# Altium footprint library 5810140011.PcbLib: 1 footprints
Each footprint in its own frame and in the unit in brackets; x right, y up, seen from the top. Pads: shape width x height; smd on the part's side, far side on the other; paste and mask are expansions set on the pad; w line width, h text height; cw(c..) or ccw(c..) is an arc to the next point about the centre after c.
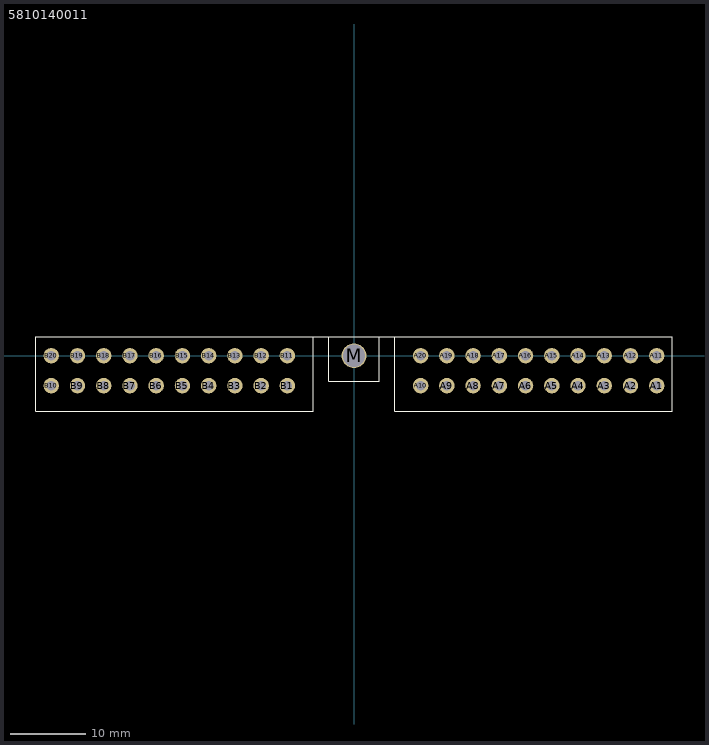
[diagram p0: the footprint, top view; thin cyan lines are the x and y axes]

## 5810140011 [mm]
pads (41):
  round 2.056 hole 1.294: A1(40.39,-4) A2(36.89,-4) A3(33.39,-4) A4(29.89,-4) A5(26.39,-4) A6(22.89,-4) A7(19.39,-4) A8(15.89,-4) A9(12.39,-4) A10(8.89,-4) A11(40.39,0) A12(36.89,0) A13(33.39,0) A14(29.89,0) A15(26.39,0) A16(22.89,0) A17(19.39,0) A18(15.89,0) A19(12.39,0) A20(8.89,0) B1(-8.89,-4) B2(-12.39,-4) B3(-15.89,-4) B4(-19.39,-4) B5(-22.89,-4) B6(-26.39,-4) B7(-29.89,-4) B8(-33.39,-4) B9(-36.89,-4) B10(-40.39,-4) B11(-8.89,0) B12(-12.39,0) B13(-15.89,0) B14(-19.39,0) B15(-22.89,0) B16(-26.39,0) B17(-29.89,0) B18(-33.39,0) B19(-36.89,0) B20(-40.39,0)
  round 3.3 hole 3: M(0,0)
Top Overlay:
  lines w0.1: -5.46,2.54 -5.46,-7.42 -42.45,-7.42 -42.45,2.54 -5.54,2.54 42.45,2.54 42.45,-7.42 5.46,-7.42 5.46,2.54 ; -3.4,2.54 -3.4,-3.42 3.4,-3.42 3.4,2.54
3D body "5810140011_model_v2.STEP": height 26.68, standoff -14.67, extent -63.299,-5.905 63.299,35.355